# EAGLE library part TLC555CDR (library TLC555CDR)
TIMER
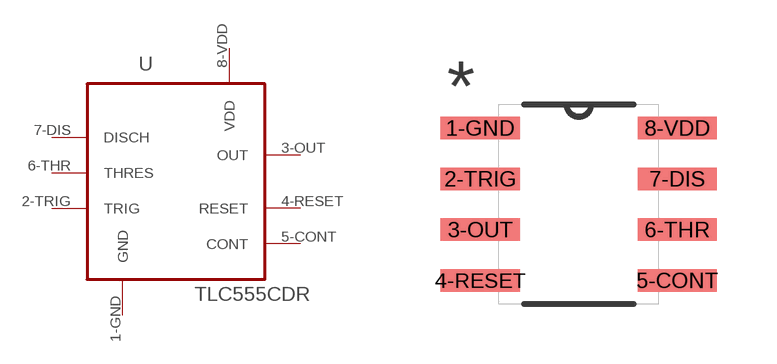
[diagram p0: symbol with the pads of SOIC127P600X175-8N; footprint SOIC127P600X175-8N]

Designator prefix U

## TLC555CDR (MPN: TLC555CDR; OC_FARNELL: 8454426; OC_NEWARK: 35C2153; PACKAGE: SOIC-8; SUPPLIER: TI)  [SOIC127P600X175-8N]
1-GND  GND  pas
2-TRIG  TRIG  in
3-OUT  OUT  out
4-RESET  RESET  in
5-CONT  CONT  pas
6-THR  THRES  pas
7-DIS  DISCH  out
8-VDD  VDD  pwr

## Footprint SOIC127P600X175-8N (pad centres in mm)
smd 1.981 x 0.559: 1-GND -2.464,1.905; 2-TRIG -2.464,0.635; 3-OUT -2.464,-0.635; 4-RESET -2.464,-1.905; 5-CONT 2.464,-1.905; 6-THR 2.464,-0.635; 7-DIS 2.464,0.635; 8-VDD 2.464,1.905